# EAGLE library part RES-4PACK-0603 (library FlashPCB_Resistors)
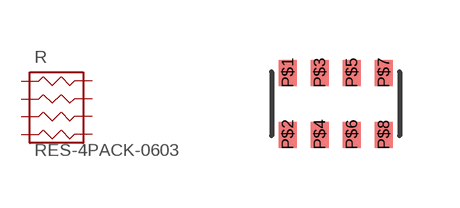
[diagram p0: symbol with the pads of RES-4PACK-0603; footprint RES-4PACK-0603]

Designator prefix R

## RES-4PACK-0603  [RES-4PACK-0603]
P$1  P$1
P$2  P$2
P$3  P$3
P$4  P$4
P$5  P$5
P$6  P$6
P$7  P$7
P$8  P$8

## Footprint RES-4PACK-0603 (pad centres in mm)
smd 0.45 x 0.65: P$1 -1.2,0.775; P$2 -1.2,-0.775; P$3 -0.4,0.775; P$4 -0.4,-0.775; P$5 0.4,0.775; P$6 0.4,-0.775; P$7 1.2,0.775; P$8 1.2,-0.775